# Altium schematic symbol library Pre-Avonic-Design.SchLib: 24 symbols
Pins are listed as number, name and electrical type; pins without a type are passive.

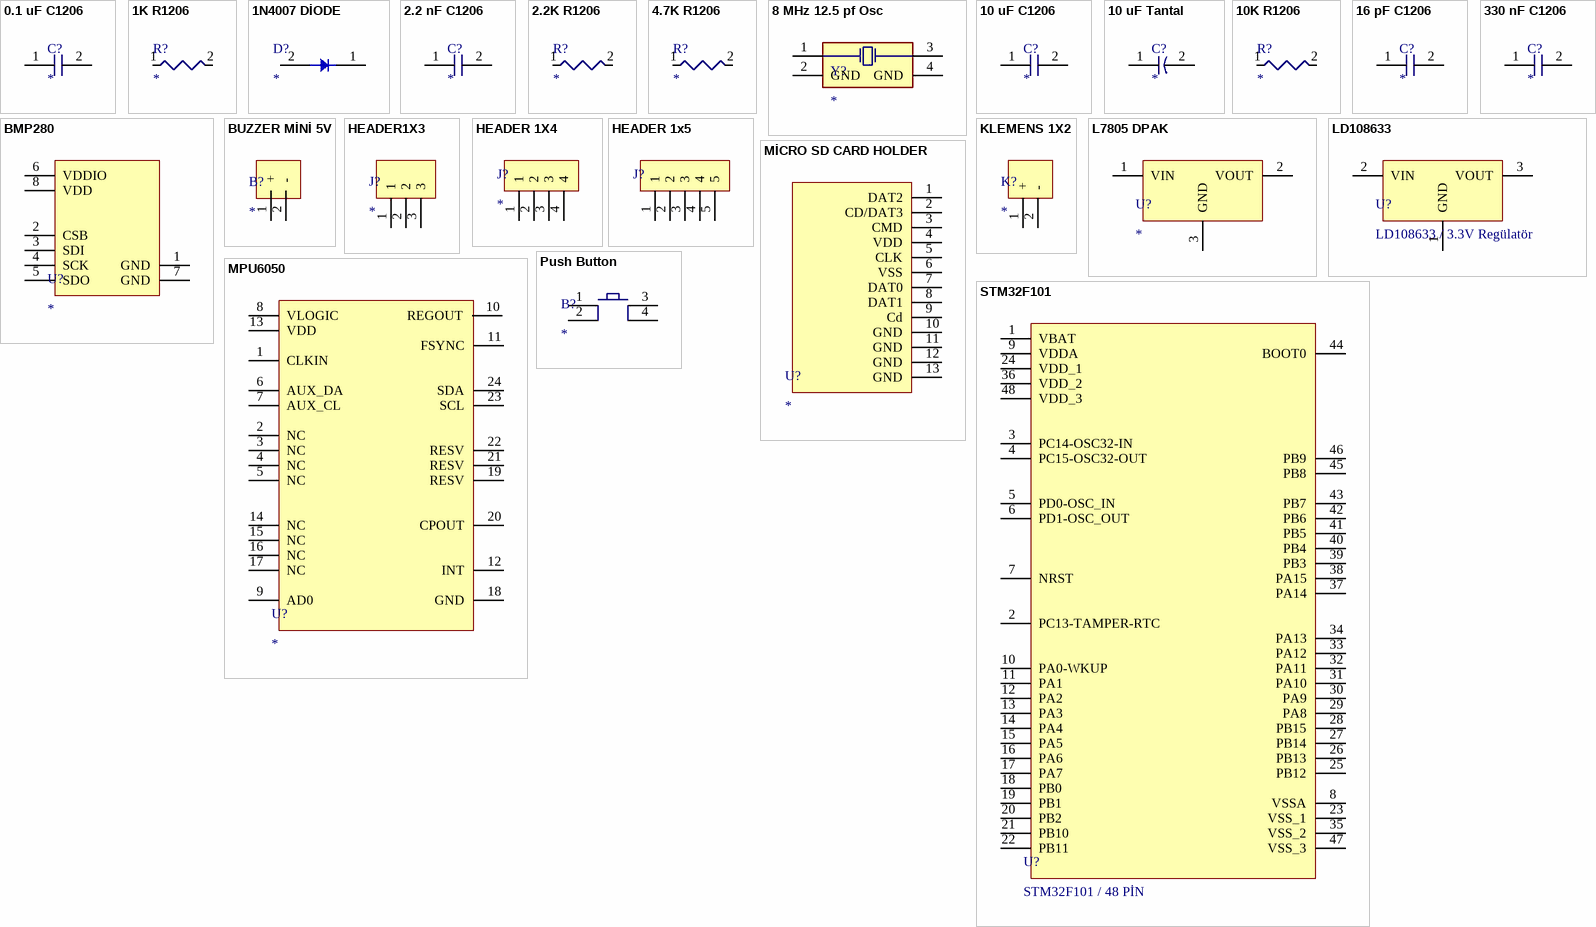
[diagram p0: symbols 0.1 uF C1206 to STM32F101]

## 0.1 uF C1206
designator C?
0.1 uF 1206
footprint c1206
pins: 1, 2

## 1K R1206
designator R?
1K R1206
footprint R1206
pins: 1, 2

## 1N4007 DİODE
designator D?
1N4007 DİODE
footprint 1N4007
pins: 1, 2

## 2.2 nF C1206
designator C?
2.2 nF C1206
footprint c1206
pins: 1, 2

## 2.2K R1206
designator R?
2.2K R1206
footprint R1206
pins: 1, 2

## 4.7K R1206
designator R?
4.7K R1206
footprint R1206
pins: 1, 2

## 8 MHz 12.5 pf Osc
designator Y?
8 MHz 12.5 pf Osc
footprint 8 MHz OSC
pins: 1, 2 GND, 3, 4 GND

## 10 uF C1206
designator C?
10 uF C1206
footprint c1206
pins: 1, 2

## 10 uF Tantal
designator C?
10 uF Tantal
footprint C1206-tantal
pins: 1, 2

## 10K R1206
designator R?
10K R1206
footprint R1206
pins: 1, 2

## 16 pF C1206
designator C?
16 pF C1206
footprint c1206
pins: 1, 2

## 330 nF C1206
designator C?
330 nF C1206
footprint c1206
pins: 1, 2

## BMP280
designator U?
BMP280 SENSOR
footprint BMP280 (BMP280 / SENSÖR)
pins: 1 GND, 2 CSB, 3 SDI, 4 SCK, 5 SDO, 6 VDDIO, 7 GND, 8 VDD

## BUZZER MİNİ 5V
designator B?
BUZZER 5V
footprint BUZZER MİNİ (BUZZER MİNİ 5V)
pins: 1 +, 2 -

## HEADER1X3
designator J?
Header 1x3 2.54mm
footprint HEADER 1X3 (HEADER 1X3 SERVO)
pins: 1, 2, 3

## HEADER 1X4
designator J?
Header1x4 2.54mm
footprint Header 1x4 (Header 1x4 2.54mm)
pins: 1, 2, 3, 4

## HEADER 1x5
designator J?  (value not drawn)
Header 1x5 2.54mm
footprint Header 1x5
pins: 1, 2, 3, 4, 5

## KLEMENS 1X2
designator K?
KLEMANS 1X22 3.6mm
footprint KLEMENS 1X2 (KLEMENS 1X2 3.5mm)
pins: 1 +, 2 -

## L7805 DPAK
designator U?
L7805 / 5V Regülatör
footprint L7805 / DPAK (L7805 / SMD /3PİN)
pins: 1 VIN, 2 VOUT, 3 GND

## LD108633
designator U?, comment LD108633 / 3.3V Regülatör
LD108633 / 3.3 REG
footprint LD108633 / DPAK - duplicate (LD108633 / DPAK / 3.3V)
pins: 1 GND, 2 VIN, 3 VOUT

## MİCRO SD CARD HOLDER
designator U?
MICRO SD CARD HOLDER
footprint Micro SD Card Holder
pins: 1 DAT2, 2 CD/DAT3, 3 CMD, 4 VDD, 5 CLK, 6 VSS, 7 DAT0, 8 DAT1, 9 Cd, 10 GND, 11 GND, 12 GND, 13 GND

## MPU6050
designator U?
MPU6050 SENSOR
footprint MPU6050 / QFN (QFN, 24-Leads, Body 4,00x4,00mm, Pitch 0,50mm, Thermal Pad 2,70x2,60mm, IPC Medium Density)
pins: 1 CLKIN, 2 NC, 3 NC, 4 NC, 5 NC, 6 AUX_DA, 7 AUX_CL, 8 VLOGIC, 9 AD0, 10 REGOUT, 11 FSYNC, 12 INT, 13 VDD, 14 NC, 15 NC, 16 NC, 17 NC, 18 GND, 19 RESV, 20 CPOUT, 21 RESV, 22 RESV, 23 SCL, 24 SDA

## Push Button
designator B?
SMD Push Button
footprint PUSH_BUTTON
pins: 1, 2, 3, 4

## STM32F101
designator U?, comment STM32F101 / 48 PİN
footprint LQFP48-STM (LQFP48-STM / 48pin)
pins: 1 VBAT, 2 PC13-TAMPER-RTC, 3 PC14-OSC32-IN, 4 PC15-OSC32-OUT, 5 PD0-OSC_IN, 6 PD1-OSC_OUT, 7 NRST, 8 VSSA, 9 VDDA, 10 PA0-WKUP, 11 PA1, 12 PA2, 13 PA3, 14 PA4, 15 PA5, 16 PA6, 17 PA7, 18 PB0, 19 PB1, 20 PB2, 21 PB10, 22 PB11, 23 VSS_1, 24 VDD_1, 25 PB12, 26 PB13, 27 PB14, 28 PB15, 29 PA8, 30 PA9, 31 PA10, 32 PA11, 33 PA12, 34 PA13, 35 VSS_2, 36 VDD_2, 37 PA14, 38 PA15, 39 PB3, 40 PB4, 41 PB5, 42 PB6, 43 PB7, 44 BOOT0, 45 PB8, 46 PB9, 47 VSS_3, 48 VDD_3